# Altium schematic symbol library discrete_misc.SchLib: 7 symbols
Pins are listed as number, name and electrical type; pins without a type are passive.

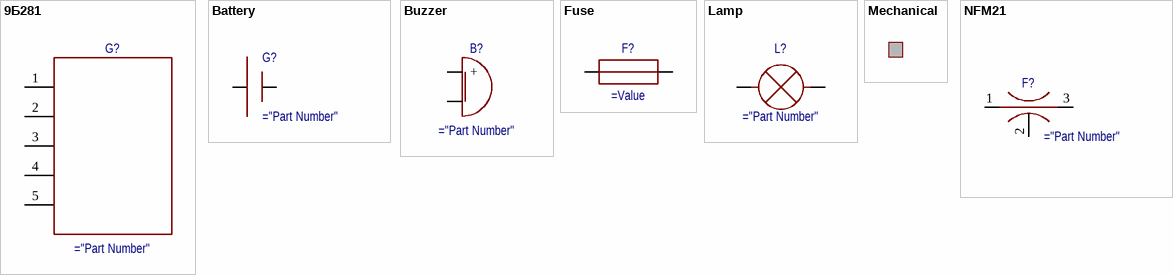
[diagram p0: symbols 9Б281 to NFM21]

## 9Б281
designator G?
Батарея ЖЦИШ.563223.002 ТУ
pins: 1, 2, 3, 4, 5

## Battery
designator G?
Батарея
pins: 1 +, 2 -

## Buzzer
designator B?
Зуммер
pins: 1 +, 2 -

## Fuse
designator F?
Предохранитель
pins: 1, 2

## Lamp
designator L?
Лампа
pins: 1, 2

## Mechanical
designator M?
Конструктивные элементы платы

## NFM21
designator F?
EMI suppression filter
pins: 1, 2, 3